# Altium schematic symbol library RES_RCH.Schlib: 1 symbol
Pins are listed as number, name and electrical type; pins without a type are passive.

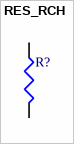
[diagram p0: symbol RES_RCH]

## RES_RCH
designator R?
Resistor
footprint TO-220-2 (RCH Resisitor)
pins: 1, 2
2 alternate drawings of the same symbol